# Altium footprint library PcbLib1.PcbLib: 226 footprints (part 5 of 15)
Each footprint in its own frame and in the unit in brackets; x right, y up, seen from the top. Pads: shape width x height; smd on the part's side, far side on the other; paste and mask are expansions set on the pad; w line width, h text height; cw(c..) or ccw(c..) is an arc to the next point about the centre after c.
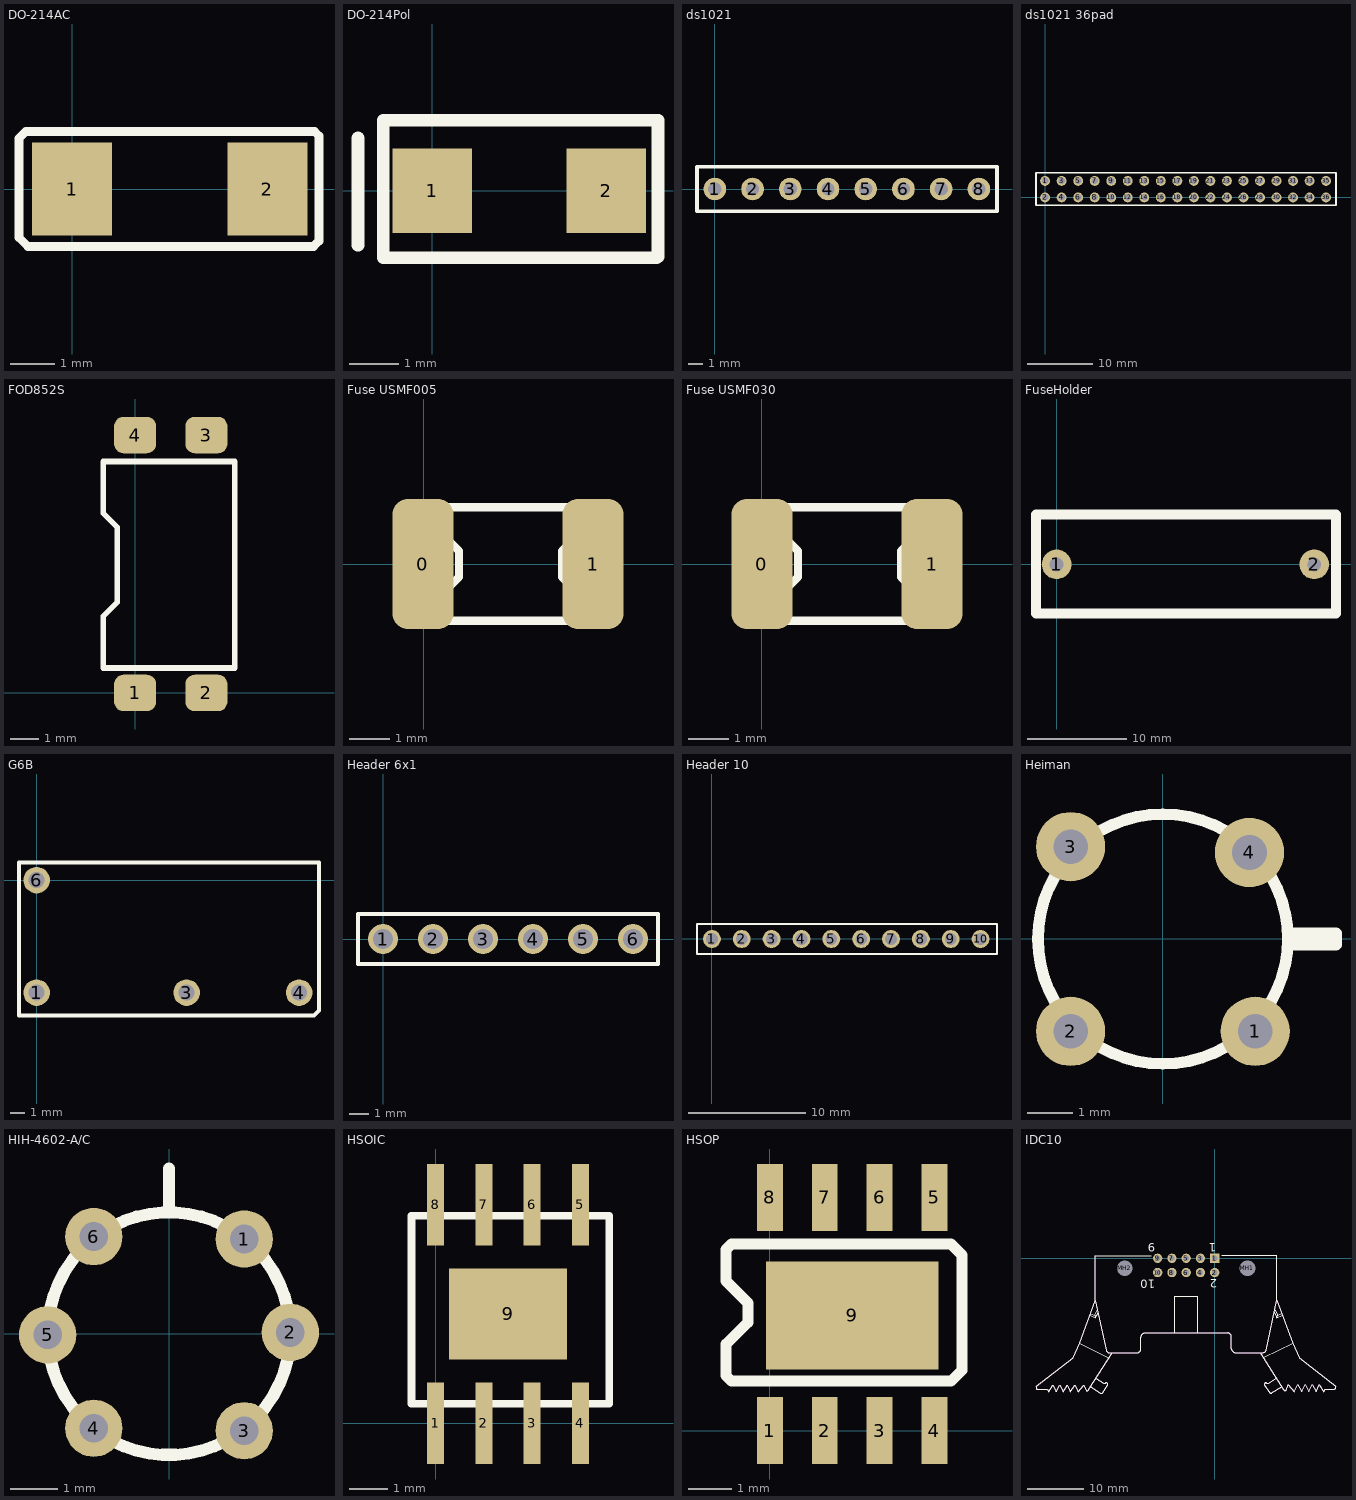
[diagram p4: the footprints below, top view; thin cyan lines are the x and y axes]

## DO-214AC [mm]
pads (2):
  rect 1.8x2.1 smd: 1(0,0) 2(4.4,0)
Top Overlay:
  lines w0.2: -1.194,-1.092 -0.991,-1.295 5.436,-1.295 5.563,-1.168 5.563,1.194 5.461,1.295 -1.041,1.295 -1.194,1.143 -1.194,-1.092

## DO-214Pol [mm]
height 2
pads (2):
  rect 1.6x1.7 smd: 1(0,0) 2(3.5,0)
Top Overlay:
  lines w0.254: -1.499,-1.092 -1.499,1.067 ; 4.521,-1.346 -0.991,-1.346 -0.991,1.422 4.547,1.422 4.547,-1.327

## ds1021 [mil]
pads (8):
  round 60 hole 35.43: 1(0,0) 2(100,0) 3(200,0) 4(300,0) 5(400,0) 6(500,0) 7(600,0) 8(700,0)
Top Overlay:
  lines w10: -47.24,-59.06 -47.24,59.06 748.03,59.06 748.03,-59.06 -47.24,-59.06

## ds1021 36pad [mil]
pads (36):
  round 60 hole 39.37: 1(0,100) 2(0,0) 3(100,100) 4(100,0) 5(200,100) 6(200,0) 7(300,100) 8(300,0) 9(400,100) 10(400,0) 11(500,100) 12(500,0) 13(600,100) 14(600,0) 15(700,100) 16(700,0) 17(800,100) 18(800,0) 19(900,100) 20(900,0) 21(1000,100) 22(1000,0) 23(1100,100) 24(1100,0) 25(1200,100) 26(1200,0) 27(1300,100) 28(1300,0) 29(1400,100) 30(1400,0) 31(1500,100) 32(1500,0) 33(1600,100) 34(1600,0) 35(1700,100) 36(1700,0)
Top Overlay:
  lines w10: -55.12,-47.64 1759.84,-47.64 1759.84,149.21 -55.12,149.21 -55.12,-47.64

## FOD852S [mm]
pads (4):
  rrect50% 1.5x1.3 smd: 1(0,0) 2(2.54,0) 3(2.54,9.2) 4(0,9.2)
Top Overlay:
  lines w0.2: -1.143,0.889 -1.143,2.73 -0.635,3.238 -0.635,5.905 -1.143,6.413 -1.143,8.255 3.556,8.255 3.556,0.889 -1.143,0.889

## Fuse USMF005 [mm]
height 2
pads (2):
  rrect50% 1.5x3.2 smd: 0(-0.025,0) 1(4.166,0)
Top Overlay:
  lines w0.2: 0.483,-1.397 3.785,-1.397 3.785,-0.699 3.404,-0.318 3.404,0.318 3.785,0.699 3.785,1.397 0.483,1.397 0.483,0.699 0.864,0.318 0.864,-0.318 0.483,-0.699 0.483,-1.397

## Fuse USMF030 [mm]
height 2
pads (2):
  rrect50% 1.5x3.2 smd: 0(0,0) 1(4.191,0)
Top Overlay:
  lines w0.2: 0.508,-1.397 0.508,-0.699 0.889,-0.318 0.889,0.318 0.508,0.699 0.508,1.397 3.81,1.397 3.81,0.699 3.429,0.318 3.429,-0.318 3.81,-0.699 3.81,-1.397 0.508,-1.397

## FuseHolder [mm]
height 13
pads (2):
  round 3 hole 1.4: 1(0,0) 2(26,0)
Top Overlay:
  lines w1: 28.143,5.029 -2.083,5.029 -2.083,-4.953 28.194,-4.953 28.194,5.029

## G6B [mm]
height 10
pads (4):
  round 1.8 hole 1.1: 1(0,-7.62) 3(10.16,-7.62) 4(17.78,-7.62) 6(0,0)
Top Overlay:
  lines w0.254: -1.194,-9.169 18.796,-9.169 19.126,-8.839 19.126,1.194 -1.194,1.194 -1.194,-9.169

## Header 6x1 [mil]
pads (6):
  round 60 hole 39.37: 1(0,0) 2(100,0) 3(200,0) 4(300,0) 5(400,0) 6(500,0)
Top Overlay:
  lines w7.87: -50,-50 550,-50 550,50 -50,50 -50,-50

## Header 10 [mil]
pads (10):
  round 60 hole 39.37: 1(0,0) 2(100,0) 3(200,0) 4(300,0) 5(400,0) 6(500,0) 7(600,0) 8(700,0) 9(800,0) 10(900,0)
Top Overlay:
  lines w7.87: -50,-50 955,-50 955,50 -50,50 -50,-50

## Heiman [mil]
pads (4):
  round 60 hole 30: 1(80,-80) 2(-80,-80) 3(-80,80) 4(75,75)
Top Overlay:
  circle w10: c0,0 r108.27
  lines w10: 108.27,0 113.27,-5 150,-5 150,5 110,5

## HIH-4602-A/C [mm]
height 6
pads (6):
  round 1.2 hole 0.6: 1(1.575,1.981) 2(2.54,0.025) 3(1.575,-2.032) 4(-1.575,-1.981) 5(-2.54,-0.025) 6(-1.575,2.032)
Top Overlay:
  circle w0.254: c0,0 r2.54
  lines w0.254: 0,2.565 0,3.454

## HSOIC [mm]
pads (9):
  rect 0.45x2.15 smd: 1(0,0) 2(1.27,0) 3(2.54,0) 4(3.81,0) 5(3.81,5.75) 6(2.54,5.75) 7(1.27,5.75) 8(0,5.75)
  rect 3.1x2.4 smd: 9(1.905,2.875)
Top Overlay:
  lines w0.2: -0.635,0.508 4.572,0.508 4.572,5.461 -0.635,5.461 -0.635,0.508

## HSOP [mm]
height 3
pads (9):
  rect 0.6x1.55 smd: 1(0,0) 2(1.27,0) 3(2.54,0) 4(3.81,0) 5(3.81,5.4) 6(2.54,5.4) 7(1.27,5.4) 8(0,5.4)
  rect 4x2.5 smd: 9(1.905,2.667)
Top Overlay:
  lines w0.254: -1.016,1.27 -1.016,2 -0.508,2.508 -0.508,2.953 -1.016,3.461 -1.016,4.191 -0.889,4.318 -0.508,4.318 4.191,4.318 4.445,4.064 4.445,1.397 4.191,1.143 -0.889,1.143 -1.016,1.27

## IDC10 [mm]
pads (12):
  rect 1.65x1.65 hole 1: 1(0,0)
  round 1.65 hole 1: 2(0,-2.54) 3(-2.54,0) 4(-2.54,-2.54) 5(-5.08,0) 6(-5.08,-2.54) 7(-7.62,0) 8(-7.62,-2.54) 9(-10.16,0) 10(-10.16,-2.54)
  round 2.5 hole 2.8 unplated: MH1(5.84,-1.8) MH2(-16,-1.8)
Top Overlay:
  lines w0.2: -31.803,-22.872 ccw(c-31.494,-23.013) -31.494,-23.352 -29.883,-23.352 ; -31.755,-22.819 -25.22,-17.725 ; -25.205,-17.751 -24.079,-15.136 ; -22.21,-10.146 -21.245,-10.595 ; -22.081,-9.858 -21.41,-10.172 ; -22.075,-22.896 -20.352,-24.021 ccw(c-20.203,-23.682) -19.937,-23.939 -19.012,-22.541 ccw(c-19.332,-22.521) -19.384,-22.205 cw(c-19.652,-21.891) -19.787,-22.281 ; -21.153,-21.399 -19.79,-22.286 ; -20.883,-9.22 -21.41,-10.172 ; -20.783,-9.673 -21.245,-10.595 ; -18.855,-17.678 -24.079,-15.136 ; -18.284,-16.825 -22.418,-23.354 cw(c-22.741,-23.251) -22.883,-23.56 -23.29,-22.596 -24.32,-23.796 -24.95,-22.596 -25.7,-23.796 -26.25,-22.596 -26.95,-23.796 -27.57,-22.596 -28.22,-23.796 -28.82,-22.596 -29.564,-23.796 ; -12.525,-13.3 2.285,-13.3 cw(c2.285,-14) 2.985,-14 2.985,-16.1 ccw(c3.685,-16.1) 3.685,-16.8 8.53,-16.8 ccw(c8.545,-16.1) 9.19,-16.372 11.08,-7.5 ; -12.445,-13.325 ccw(c-12.445,-14.025) -13.145,-14.025 -13.145,-16.125 cw(c-13.845,-16.125) -13.845,-16.825 -18.69,-16.825 cw(c-18.705,-16.126) -19.35,-16.398 -21.24,-7.525 ; -11.27,0.475 -21.24,0.475 -21.24,-7.525 ; -7.14,-6.8 -3.04,-6.8 ; -7.13,-13.3 -7.13,-6.804 ; -3.03,-13.3 -3.03,-6.8 ; 1.225,0.5 11.08,0.5 11.08,-7.5 ; 8.124,-16.8 12.258,-23.328 ccw(c12.581,-23.226) 12.723,-23.535 13.13,-22.571 14.16,-23.771 14.79,-22.571 15.54,-23.771 16.09,-22.571 16.79,-23.771 17.41,-22.571 18.06,-23.771 18.661,-22.571 19.405,-23.771 ; 8.695,-17.653 13.919,-15.11 ; 9.627,-22.255 cw(c9.492,-21.865) 9.224,-22.18 ccw(c9.172,-22.495) 8.852,-22.515 9.777,-23.914 ccw(c10.043,-23.657) 10.192,-23.995 11.915,-22.87 ; 9.63,-22.261 10.993,-21.373 ; 10.623,-9.648 11.085,-10.57 ; 10.723,-9.195 11.25,-10.147 ; 11.921,-9.833 11.25,-10.147 ; 12.05,-10.121 11.085,-10.57 ; -29.564,-23.796 -29.82,-23.325 -29.564,-23.796 ; -24.079,-15.136 -21.24,-7.525 ; -21.41,-10.172 -21.245,-10.595 ; 11.08,-7.5 13.919,-15.11 ; 11.085,-10.57 11.25,-10.147 ; 13.919,-15.11 15.045,-17.725 21.58,-22.819 cw(c21.271,-22.96) 21.271,-23.3 19.66,-23.3 ; 19.405,-23.771 19.66,-23.3 ; 19.405,-23.771 19.66,-23.3
  text "2" at 0.5,-3.74 h1.5
  text "1" at 0.25,2.7 h1.5
  text "10" at -10.592,-3.835 h1.5
  text "9" at -10.566,2.642 h1.5
Mechanical 13:
  lines w0.1: -29.883,-23.352 -31.494,-23.352 cw(c-31.494,-23.013) -31.803,-22.872 -25.268,-17.778 ; -25.205,-17.751 -24.079,-15.136 -21.24,-7.525 ; -22.075,-22.896 -20.352,-24.021 ccw(c-20.203,-23.682) -19.937,-23.939 -19.012,-22.541 ccw(c-19.332,-22.521) -19.384,-22.205 cw(c-19.652,-21.891) -19.787,-22.281 ; -21.24,0.475 -21.24,-7.525 ; -21.153,-21.399 -19.79,-22.286 ; -18.284,-16.825 -22.418,-23.354 cw(c-22.741,-23.251) -22.883,-23.56 -23.29,-22.596 -24.32,-23.796 -24.95,-22.596 -25.7,-23.796 -26.25,-22.596 -26.95,-23.796 -27.57,-22.596 -28.22,-23.796 -28.82,-22.596 -29.564,-23.796 ; -12.445,-13.325 ccw(c-12.445,-14.025) -13.145,-14.025 -13.145,-16.125 cw(c-13.845,-16.125) -13.845,-16.825 -18.69,-16.825 cw(c-18.705,-16.126) -19.35,-16.398 -21.24,-7.525 ; -12.445,-13.3 2.285,-13.3 cw(c2.285,-14) 2.985,-14 2.985,-16.1 ccw(c3.685,-16.1) 3.685,-16.8 8.53,-16.8 ccw(c8.545,-16.1) 9.19,-16.372 11.08,-7.5 ; 8.124,-16.8 12.258,-23.328 ccw(c12.581,-23.226) 12.723,-23.535 13.13,-22.571 14.16,-23.771 14.79,-22.571 15.54,-23.771 16.09,-22.571 16.79,-23.771 17.41,-22.571 18.06,-23.771 18.661,-22.571 19.405,-23.771 ; 9.627,-22.255 cw(c9.492,-21.865) 9.224,-22.18 ccw(c9.172,-22.495) 8.852,-22.515 9.777,-23.914 ccw(c10.043,-23.657) 10.192,-23.995 11.915,-22.87 ; 9.63,-22.261 10.993,-21.373 ; 11.08,0.5 11.08,-7.5 ; -29.564,-23.796 -29.82,-23.325 -29.564,-23.796 ; 11.08,-7.5 13.919,-15.11 15.045,-17.725 21.58,-22.819 cw(c21.271,-22.96) 21.271,-23.3 19.66,-23.3 ; 19.405,-23.771 19.66,-23.3 ; 19.405,-23.771 19.66,-23.3